# Altium schematic symbol library Schlib1.SchLib: 18 symbols
Pins are listed as number, name and electrical type; pins without a type are passive.

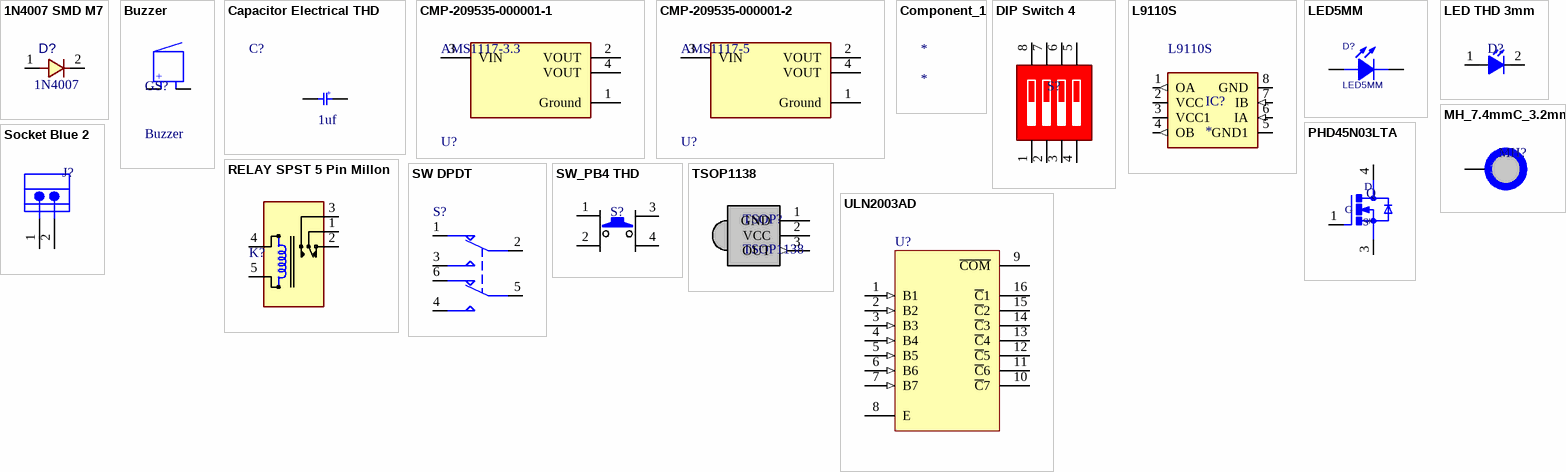
[diagram p0: symbols 1N4007 SMD M7 to ULN2003AD]

## 1N4007 SMD M7
designator D?  value 1N4007
DIODE, GENERAL PURPOSE, 1000V/1A; DatasheetVersion: 2021; ComponentLink1Description: Website Smart World; ComponentLink1URL: https://www.smartw.ir/; ComponentLink2Description: Telegram; ComponentLink2URL: https://t.me/altium_smartw; ComponentLink3Description: Instagram; ComponentLink3URL: https://Instagram.com/smartgw.ir
footprint D_SMA (SMA Molded Diode, 2-Leads, Body 4.3x2.7mm)
pins: 1, 2

## Buzzer
designator GS?
Magnetic Transducer Buzzer; Company: SJ Libraries; Designer: Eng. Saeid Jorablo; PackageReference: ABSM-1574; PackageDescription: Magnetic Transducer Buzzer; Mounting Technology: Surface Mount\Through-Hole; ComponentLink1Description: Datasheet; Pin Count: 0; Category: MISC; HelpURL: http://s3.picofile.com/file/7443264187/Coming_Soon_logo.gif; ComponentLink2Description: Reference; Publisher: SJ Unlimited; Status: Unreleased
footprint BZ_SJ
pins: 1 + "Positive Pin", 2 - "Negative Pin"
4 alternate drawings of the same symbol

## Capacitor Electrical THD
designator C?  value 1uf
Capacitor Electrical THD; DatasheetVersion: 2021; ComponentLink1Description: Website Smart World; ComponentLink1URL: https://www.smartw.ir/; ComponentLink2Description: Telegram; ComponentLink2URL: https://t.me/altium_smartw; ComponentLink3Description: Instagram; ComponentLink3URL: https://Instagram.com/smartgw.ir
footprint 1500uF 35V 13x40
footprint Cap electrolitic radial 8x12-3.5 (Cap electrolitic radial 8x12-3.5-Design:Abbas Basereh)
footprint Cap electrolitic radial 10x16-5 (Cap electrolitic radial 10x16-5-Design:Abbas Basereh)
footprint Cap electrolitic radial 13x25-5 (Cap electrolitic radial 13x25-5-Design)
footprint CAPCITOR (C?)
footprint Cap_1_(1.5mm) (Capacitor, Electrolytic, Radial; Body 5 x 6.8 mm (Dia.xH typ); Pin Spacing 2 mm (typ))
footprint Cap_2_(2.5mm) (Capacitor, Electrolytic, Radial; Body 6.3 x 6.8 mm (Dia.xH typ); Pin Spacing 2.5 mm (typ))
footprint Cap_3_(3.5mm) (Capacitor, Electrolytic, Radial; Body 8 x 5 mm (Dia.xH typ); Pin Spacing 3.5 mm (typ))
footprint Cap_4_(5mm) (Capacitor, Electrolytic, Radial; Body 10 x 5 mm (Dia.xH typ); Pin Spacing 5 mm (typ))
footprint Cap1_(2mm) (Capacitor, Electrolytic, Radial; Body 5 x 6.8 mm (Dia.xH typ); Pin Spacing 2 mm (typ))
footprint Cap2_(2.5mm) (Capacitor, Electrolytic, Radial; Body 6.3 x 6.8 mm (Dia.xH typ); Pin Spacing 2.5 mm (typ))
footprint Cap3_(3.5mm) (Capacitor, Electrolytic, Radial; Body 8 x 5 mm (Dia.xH typ); Pin Spacing 3.5 mm (typ))
footprint Cap4_(5mm) (Capacitor, Electrolytic, Radial; Body 10 x 5 mm (Dia.xH typ); Pin Spacing 5 mm (typ))
footprint Cap5_(7.5mm) (Capacitor, Electrolytic, Radial; Body 16 x 25 mm (Dia.xH typ); Pin Spacing 7.5 mm (typ))
footprint C_EL_4X7 (Cap Elec, D4.0X7.0H pitch: 1.5mm)
footprint C_EL_5X7 (Cap Elec, D5.0X7.0H pitch: 2mm)
footprint C_EL_5X11 (Cap Elec, D5.0X11.0H pitch: 2mm)
footprint C_EL_6X11 (Cap Elec, D6.3X11.0H pitch: 2.5mm)
footprint C_EL_6X12_R (Cap Elec, D6.3X12.0H pitch: 2.5mm)
footprint C_EL_8X12 (Cap Elec, D8.0X12.0H pitch: 3.5mm, RB.14/.26, RB.15/.32)
footprint C_EL_8X12R (Cap Elec, D8.0X12.0H pitch: 3.5mm, RIGHT ANGLE)
footprint C_EL_10X12 (Cap Elec, D10.0X12.0H pitch: 5.0mm)
footprint C_EL_10X20 (Cap Elec, D10.0X20.0H pitch: 5.0mm, RB.2/.4)
footprint C_EL_12X25 (Cap Elec, D12.0X25.0H pitch: 5.0mm, RB.2/.5)
footprint C_EL_16X25 (Cap Elec, D16.0X25.0H pitch: 7.6mm, RB.3/.6)
footprint C_EL_18X35 (Cap Elec, D18.0X35.0H pitch: 7.6mm, RB.3/.7)
footprint C_EL_20X35 (Cap Elec, D20.0X35.0H pitch: 10.0mm, RB.4/.8)
footprint C_EL_25X40 (Cap Elec, D25.0X40.0H pitch: 12.8mm, RB.5/1)
footprint C_EL_26X13X27 (Cap Elec, 26X13X27mm, 18mm pitch)
footprint C_EL_30X50 (Cap Elec, D30.0X50.0H pitch: 10.0mm)
footprint C_EL_35X30 (Cap Elec, D35.0X30.0H pitch: 10.0mm, 470uF/400V, RB.44/1.3)
footprint PLOAR 30x22.2
footprint ploar 8x12 size
footprint POLAR 10X20 SIZE
footprint POLAR 16X32 SIZE
pins: 1, 2
text: +

## CMP-209535-000001-1
designator U?, comment AMS1117-3.3
LDO Voltage Regulators 1A, 3.3V; Manufacturer: Advanced Monolithic Systems; Dropout Voltage: 1.1V; Output Type: Fixed; Nominal Supply Current: 5mA; Max Power Dissipation: 1.2W; Max Supply Voltage: 15V; Number Of Outputs: 1; Standoff Height: 0.64mm; Max Junction Temp: +125°C; Height: 1.8mm; Package: AMS1117; Device Class L2: Power Management ICs; ComponentLink2Description: Datasheet; ComponentLink2URL: http://www.advanced-monolithic.com/pdf/ds1117.pdf; Category: IC; RoHS: TRUE; Automotive: No; Device Class L1: Integrated Circuits (ICs); Output Current: 1A; Device Class L3: Voltage Regulators - Linear; Temperature: -40°C to +125°C; Output Voltage: 3.3V; Manufacturer Part Number: AMS1117-3.3; Temperature Range Low: -40°C; Octopart: https://octopart.com/ams1117-3.3-advanced+monolithic+systems-25899300; Lead Free: Yes; Ipc Land Pattern Name: SOT229P700X180-4; Temperature Range High: +125°C
footprint SOT223-4N (SOT223, 4-Leads, Body 6.7x7.3mm (max), Pitch 2.30mm, IPC Medium Density)
footprint SOT223-4M (SOT223, 4-Leads, Body 6.7x7.3mm (max), Pitch 2.30mm, IPC Low Density)
footprint SOT223-4L (SOT223, 4-Leads, Body 6.7x7.3mm (max), Pitch 2.30mm, IPC High Density)
pins: 1 Ground (power), 2 VOUT, 3 VIN (power), 4 VOUT

## CMP-209535-000001-2
designator U?, comment AMS1117-5
LDO Voltage Regulators 1A, 5V; Manufacturer Part Number: AMS1117-3.3; Manufacturer: Advanced Monolithic Systems; Dropout Voltage: 1.1V; Output Type: Fixed; Nominal Supply Current: 5mA; Max Power Dissipation: 1.2W; Max Supply Voltage: 15V; Number Of Outputs: 1; Standoff Height: 0.64mm; Max Junction Temp: +125°C; Height: 1.8mm; Package: AMS1117; Device Class L2: Power Management ICs; ComponentLink2Description: Datasheet; ComponentLink2URL: http://www.advanced-monolithic.com/pdf/ds1117.pdf; Category: IC; RoHS: TRUE; Automotive: No; Device Class L1: Integrated Circuits (ICs); Output Current: 1A; Device Class L3: Voltage Regulators - Linear; Temperature: -40°C to +125°C; Output Voltage: 5V; Temperature Range Low: -40°C; Octopart: https://octopart.com/ams1117-3.3-advanced+monolithic+systems-25899300; Lead Free: Yes; Ipc Land Pattern Name: SOT229P700X180-4; Temperature Range High: +125°C
footprint SOT223-4N (SOT223, 4-Leads, Body 6.7x7.3mm (max), Pitch 2.30mm, IPC Medium Density)
footprint SOT223-4M (SOT223, 4-Leads, Body 6.7x7.3mm (max), Pitch 2.30mm, IPC Low Density)
footprint SOT223-4L (SOT223, 4-Leads, Body 6.7x7.3mm (max), Pitch 2.30mm, IPC High Density)
pins: 1 Ground (power), 2 VOUT, 3 VIN (power), 4 VOUT

## Component_1
designator *

## DIP Switch 4
designator S?
4 BIT DIP Switch; ComponentLink1Description: Website Smart World; ComponentLink1URL: https://www.smartw.ir/; ComponentLink2Description: Telegram; ComponentLink2URL: https://t.me/altium_smartw; ComponentLink3Description: Instagram; ComponentLink3URL: https://Instagram.com/smartgw.ir; DatasheetVersion: 2021
footprint dip switch 4  Blue THD (SWITCH DIP 4POS, THD, 2.54mm, YL04 (www.smartw.ir))
footprint dip switch 4 Red 2 THD ((www.smartw.ir))
pins: 1, 2, 3, 4, 5, 6, 7, 8

## L9110S
designator IC?
Buck-Boost Switching Regulator IC Positive Adjustable 1V 1 Output 1.2A 8-SOIC (0.154, 3.90mm Width); MP: L9110S; MF: Renesas Electronics; Price: None; SnapEDA_Link: https://www.snapeda.com/parts/L9110S/Renesas/view-part/?ref=snap; Check_prices: https://www.snapeda.com/parts/L9110S/Renesas/view-part/?ref=eda; Package: None; Availability: Not in stock; Value: *
footprint SOIC127P600X150-8
pins: 1 OA (out), 2 VCC (power), 3 VCC1 (power), 4 OB (out), 5 GND1 (power), 6 IA (in), 7 IB (in), 8 GND (power)

## LED5MM
designator D?
LED LIGHTING; Designer: Abbas Basereh; Data: 16-12-2016; Link: *; Part.No: *
footprint LED THD 5mm (Yellow) ((www.Smartw.ir))
footprint LED THD 5mm (Green) ((www.Smartw.ir))
pins: 1 ANODE, 2 CATHODE

## LED THD 3mm
designator D?
LED THD 3mm; ComponentLink1Description: Website Smart World; ComponentLink1URL: https://www.smartw.ir/; ComponentLink2Description: Telegram; ComponentLink2URL: https://t.me/altium_smartw; ComponentLink3Description: Instagram; ComponentLink3URL: https://Instagram.com/smartgw.ir; DatasheetVersion: 2021
footprint LED THD 3mm (White) (LED THD 3MM)
pins: 1 ANODE, 2 CATHODE

## MH_7.4mmC_3.2mmD
designator MH?  (value not drawn)  (no BOM)
MH_7.4MM Diameter,3.2mm Drill
footprint MH_7.4mmC_3.2mmD
pins: 0

## PHD45N03LTA
designator Q
Bipolar Transistors - BJT; MF: NXP USA; MP: PHD45N03LTA; Package: TO-252-3 NXP USA; Price: None; SnapEDA_Link: https://www.snapeda.com/parts/PHD45N03LTA/NXP%20USA%20Inc./view-part/554376/?ref=snap; Availability: Unavailable; Value: *
footprint TO228P1000X238-3N
pins: 1 G, 3 S, 4 D

## RELAY SPST 5 Pin Millon
designator K?
Relay; ComponentLinkp-URL: https://www.smartw.ir/; DatasheetVersion: 2021; ComponentLink1Description: Website Smart World; ComponentLink1URL: https://www.smartw.ir/; ComponentLink2Description: Telegram; ComponentLink2URL: https://t.me/altium_smartw; ComponentLink3Description: Instagram; ComponentLink3URL: https://Instagram.com/smartgw.ir
footprint REL_SPDT_5_2216 (RELAY SPDT, OMRON G5LE SERIES, 22X16mm and 18.8x15.4mm, HJR-3FF, RAS-1215)
pins: 1 COM, 2 NC, 3 NO, 4 T1, 5 T2

## Socket Blue 2
designator J?
ComponentLink1Description: Website Smart World; ComponentLink1URL: https://www.smartw.ir/*; ComponentLink2Description: Telegram; ComponentLink2URL: https://t.me/altium_smartw; ComponentLink3Description: Instagram; ComponentLink3URL: https://Instagram.com/smartgw.ir; DatasheetVersion: 2021
footprint Socket Blue 2
pins: 1, 2

## SW DPDT
designator S?, comment Double Switch  (value not drawn)
DPDT Switch; ComponentLink1Description: Website Smart World; ComponentLink1URL: https://www.smartw.ir/; ComponentLink2Description: Telegram; ComponentLink2URL: https://t.me/altium_smartw; ComponentLink3Description: Instagram; ComponentLink3URL: https://Instagram.com/smartgw.ir; DatasheetVersion: 2021
footprint SWPUST_DPDT_S2 (Switch, Push, DPDT, THD, Straight (www.Smartw.ir))
pins: 1, 2, 3, 4, 5, 6

## SW_PB4 THD
designator S?
SW_PB4 THD; ComponentLink1Description: Website Smart World; ComponentLink1URL: https://www.smartw.ir/; ComponentLink2Description: Telegram; ComponentLink2URL: https://t.me/altium_smartw; ComponentLink3Description: Instagram; ComponentLink3URL: https://Instagram.com/smartgw.ir; DatasheetVersion: 2021
footprint SW THD 4 PIN (24) 10X10X7 (SWITCH, PUSHBUTTON, THD, SPDT,)
footprint SW THD 4 PIN (25) 12X12SKHC (SWITCH, PUSHBUTTON, THD, SPDT, 12X12X7.3 mm ; 1,000,000 cycles ; 1.27N Force, SKHCBEA010)
footprint SW THD 4 PIN (6) (Vertical 6.0mm Square Type (Snap-in) SKHH Series; 7.0 mm Height ; 1,000,000 cycles ; 0.98N Force)
pins: 1, 2, 3, 4

## TSOP1138
designator TSOP?
IR Receiver Modules for Remote Control Systems; ComponentLinkp-URL: https://www.smartw.ir/; DatasheetVersion: 2021; ComponentLink1Description: Website Smart World; ComponentLink1URL: https://www.smartw.ir/; ComponentLink2Description: Telegram; ComponentLink2URL: https://t.me/altium_smartw; ComponentLink3Description: Instagram; ComponentLink3URL: https://Instagram.com/smartgw.ir
footprint TSOP11XX & 13XX (IR Receiver Modules for Remote Control Systems)
pins: 1 GND (power), 2 VCC (power), 3 OUT (out)

## ULN2003AD
designator U?
Darlington Transistor Array; Published: 15-May-2002; LatestRevisionDate: 13-Apr-2006; LatestRevisionNote: IPC-7351 Footprint Added.; DatasheetVersion: Sep-1986; PackageVersion: Jan-1998; PackageReference: D016; Publisher: Altium Limited; PackageDescription: 16-Pin Small Outline Integrated Circuit 1.27 mm Pitch; Code_IPC: SOIC127P600-16; ComponentLink1Description: Manufacturer Link; ComponentLink1URL: http://www.ti.com/; ComponentLink2Description: Datasheet; ComponentLink2URL: http://www-s.ti.com/sc/ds/uln2002a.pdf
footprint SOIC16 ((www.Smartw.ir))
pins: 1 B1 (in), 2 B2 (in), 3 B3 (in), 4 B4 (in), 5 B5 (in), 6 B6 (in), 7 B7 (in), 8 E (power), 9 ~{COM}, 10 ~{C}7 (oc), 11 ~{C}6 (oc), 12 ~{C}5 (oc), 13 ~{C}4 (oc), 14 ~{C}3 (oc), 15 ~{C}2 (oc), 16 ~{C}1 (oc)